# Altium schematic symbol library Schlib1.SchLib: 1 symbol
Pins are listed as number, name and electrical type; pins without a type are passive.

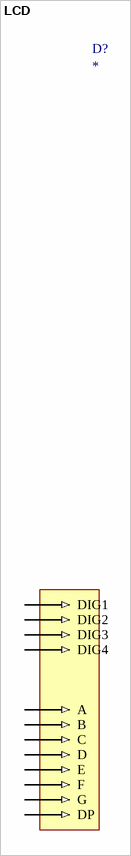
[diagram p0: symbol LCD]

## LCD
designator D?
pins: ?1 DP (in), ?2 G (in), ?3 F (in), ?4 E (in), ?5 D (in), ?6 C (in), ?7 B (in), ?8 A (in), ?9 DIG1 (in), ?10 DIG2 (in), ?11 DIG3 (in), ?12 DIG4 (in)